# EAGLE library part MCP23S17 (library HyTechDevices - Copy)
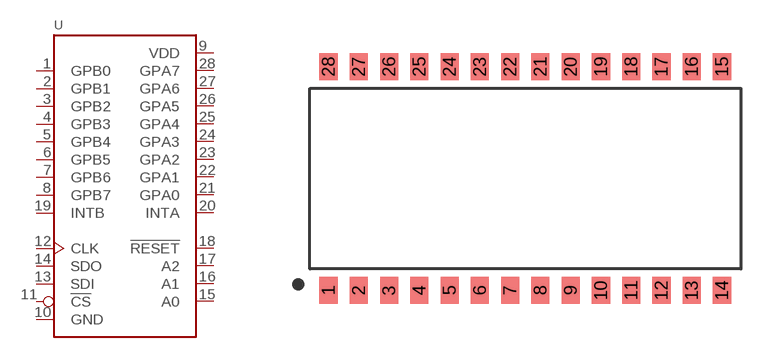
[diagram p12: symbol with the pads of SOIC-28W; footprint SOIC-28W]

Designator prefix -

## MCP23S17SOIC_WIDE  [SOIC-28W]
1  GPB0
2  GPB1
3  GPB2
4  GPB3
5  GPB4
6  GPB5
7  GPB6
8  GPB7
9  VDD  pwr
10  GND  pwr
11  !CS  in
12  CLK  in
13  SDI  in
14  SDO  out
15  A0  in
16  A1  in
17  A2  in
18  !RESET  in
19  INTB  out
20  INTA  out
21  GPA0
22  GPA1
23  GPA2
24  GPA3
25  GPA4
26  GPA5
27  GPA6
28  GPA7

## Footprint SOIC-28W (pad centres in mm)
SOIC 28W Datasheet <https://www.analog.com/media/en/package-pcb-resources/package/pkg_pdf/ltc-legacy-soic/SO_28_05-08-1620.pdf>
smd 0.762 x 1.143: 1 -8.255,-4.699; 2 -6.985,-4.699; 3 -5.715,-4.699; 4 -4.445,-4.699; 5 -3.175,-4.699; 6 -1.905,-4.699; 7 -0.635,-4.699; 8 0.635,-4.699; 9 1.905,-4.699; 10 3.175,-4.699; 11 4.445,-4.699; 12 5.715,-4.699; 13 6.985,-4.699; 14 8.255,-4.699; 15 8.255,4.699; 16 6.985,4.699; 17 5.715,4.699; 18 4.445,4.699; 19 3.175,4.699; 20 1.905,4.699; 21 0.635,4.699; 22 -0.635,4.699; 23 -1.905,4.699; 24 -3.175,4.699; 25 -4.445,4.699; 26 -5.715,4.699; 27 -6.985,4.699; 28 -8.255,4.699